# Altium footprint library Arduino.PcbLib: 1 footprints
Each footprint in its own frame and in the unit in brackets; x right, y up, seen from the top. Pads: shape width x height; smd on the part's side, far side on the other; paste and mask are expansions set on the pad; w line width, h text height; cw(c..) or ccw(c..) is an arc to the next point about the centre after c.
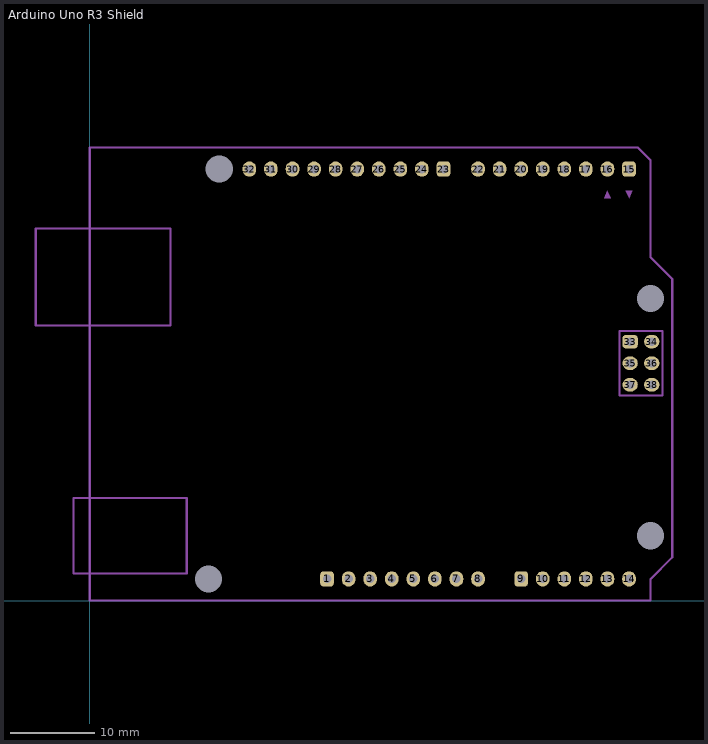
[diagram p0: the footprint, top view; thin cyan lines are the x and y axes]

## Arduino Uno R3 Shield [mm]
pads (42):
  rrect50% 1.6x1.8 hole 1: 1(27.94,2.54) 9(50.8,2.54) 15(63.5,50.8) 23(41.656,50.8)
  oval 1.6x1.8 hole 1: 2(30.48,2.54) 3(33.02,2.54) 4(35.56,2.54) 5(38.1,2.54) 6(40.64,2.54) 7(43.18,2.54) 8(45.72,2.54) 10(53.34,2.54) 11(55.88,2.54) 12(58.42,2.54) 13(60.96,2.54) 14(63.5,2.54) 16(60.96,50.8) 17(58.42,50.8) 18(55.88,50.8) 19(53.34,50.8) 20(50.8,50.8) 21(48.26,50.8) 22(45.72,50.8) 24(39.116,50.8) 25(36.576,50.8) 26(34.036,50.8) 27(31.496,50.8) 28(28.956,50.8) 29(26.416,50.8) 30(23.876,50.8) 31(21.336,50.8) 32(18.796,50.8)
  rrect50% 1.8x1.6 hole 1: 33(63.627,30.48)
  oval 1.8x1.6 hole 1: 34(66.167,30.48) 35(63.627,27.94) 36(66.167,27.94) 37(63.627,25.4) 38(66.167,25.4)
  round 0 hole 3.2 unplated: ""(13.97,2.54) ""(15.24,50.8) ""(66.04,7.62) ""(66.04,35.56)
Mechanical 1:
  region: 60.96,48.26 60.579,47.371 61.341,47.371
  region: 63.5,47.371 63.881,48.26 63.119,48.26
  lines w0.254: -6.35,32.385 -6.35,43.815 9.525,43.815 9.525,32.385 -6.35,32.385 ; -1.905,3.175 -1.905,12.065 11.43,12.065 11.43,3.175 -1.905,3.175 ; 0,0 66.04,0 66.04,2.54 68.58,5.08 68.58,37.846 66.04,40.386 66.04,51.816 64.516,53.34 0,53.34 0,0 ; 62.357,24.13 67.437,24.13 67.437,31.75 62.357,31.75 62.357,24.13
  text "SCL" at 64.135,7.62 h1.78
  text "SDA" at 61.595,7.62 h1.78
  text "SDA" at 21.971,43.18 h1.78
  text "SCL" at 19.431,43.18 h1.78
  text "POWER" at 2.794,6.858 h1.52
  text "USB" at 4.318,37.338 h1.52
  text "VIN" at 46.355,4.445 h1.78
  text "A2" at 56.515,4.445 h1.78
  text "A5" at 64.135,4.445 h1.78
  text "3V3" at 36.195,4.445 h1.78
  text "NC" at 28.575,4.445 h1.78
  text "5V" at 38.735,4.445 h1.78
  text "A1" at 53.975,4.445 h1.78
  text "A0" at 51.435,4.445 h1.78
  text "A4" at 61.595,4.445 h1.78
  text "A3" at 59.055,4.445 h1.78
  text "IOREF" at 31.115,4.445 h1.78
  text "RST" at 33.655,4.445 h1.78
  text "GND" at 43.815,4.445 h1.78
  text "GND" at 41.275,4.445 h1.78
  text "8" at 42.291,48.592 h1.78
  text "~11" at 34.671,46.955 h1.78
  text "2" at 59.055,48.578 h1.78
  text "A4" at 21.971,47.345 h1.78
  text "A5" at 19.431,47.356 h1.78
  text "12" at 32.131,47.778 h1.78
  text "13" at 29.591,47.766 h1.78
  text "~6" at 48.895,47.636 h1.78
  text "7" at 46.355,48.596 h1.78
  text "~3" at 56.515,47.649 h1.78
  text "4" at 53.975,48.523 h1.78
  text "0" at 64.135,48.604 h1.78
  text "AREF" at 24.511,45.085 h1.78
  text "GND" at 27.051,45.962 h1.78
  text "~10" at 37.211,46.774 h1.78
  text "~9" at 39.751,47.654 h1.78
  text "~5" at 51.435,47.628 h1.78
  text "1" at 61.595,48.843 h1.78
  text "12/MISO" at 55.132,29.845 h1.78
  text "13/SCK" at 55.781,27.305 h1.78
  text "RST" at 58.192,24.765 h1.78
  text "GND" at 69.215,24.765 h1.78
  text "11/MOSI" at 69.215,27.305 h1.78
  text "5V" at 69.215,29.845 h1.78
  text "RX" at 64.135,44.45 h1.78
  text "TX" at 61.595,44.45 h1.78
  text "SCK" at 29.591,42.545 h1.78
  text "MISO" at 32.131,42.545 h1.78
  text "MOSI" at 34.671,42.545 h1.78